# Altium schematic symbol library Connectors.SchLib: 325 symbols (part 1 of 4)
Pins are listed as number, name and electrical type; pins without a type are passive.

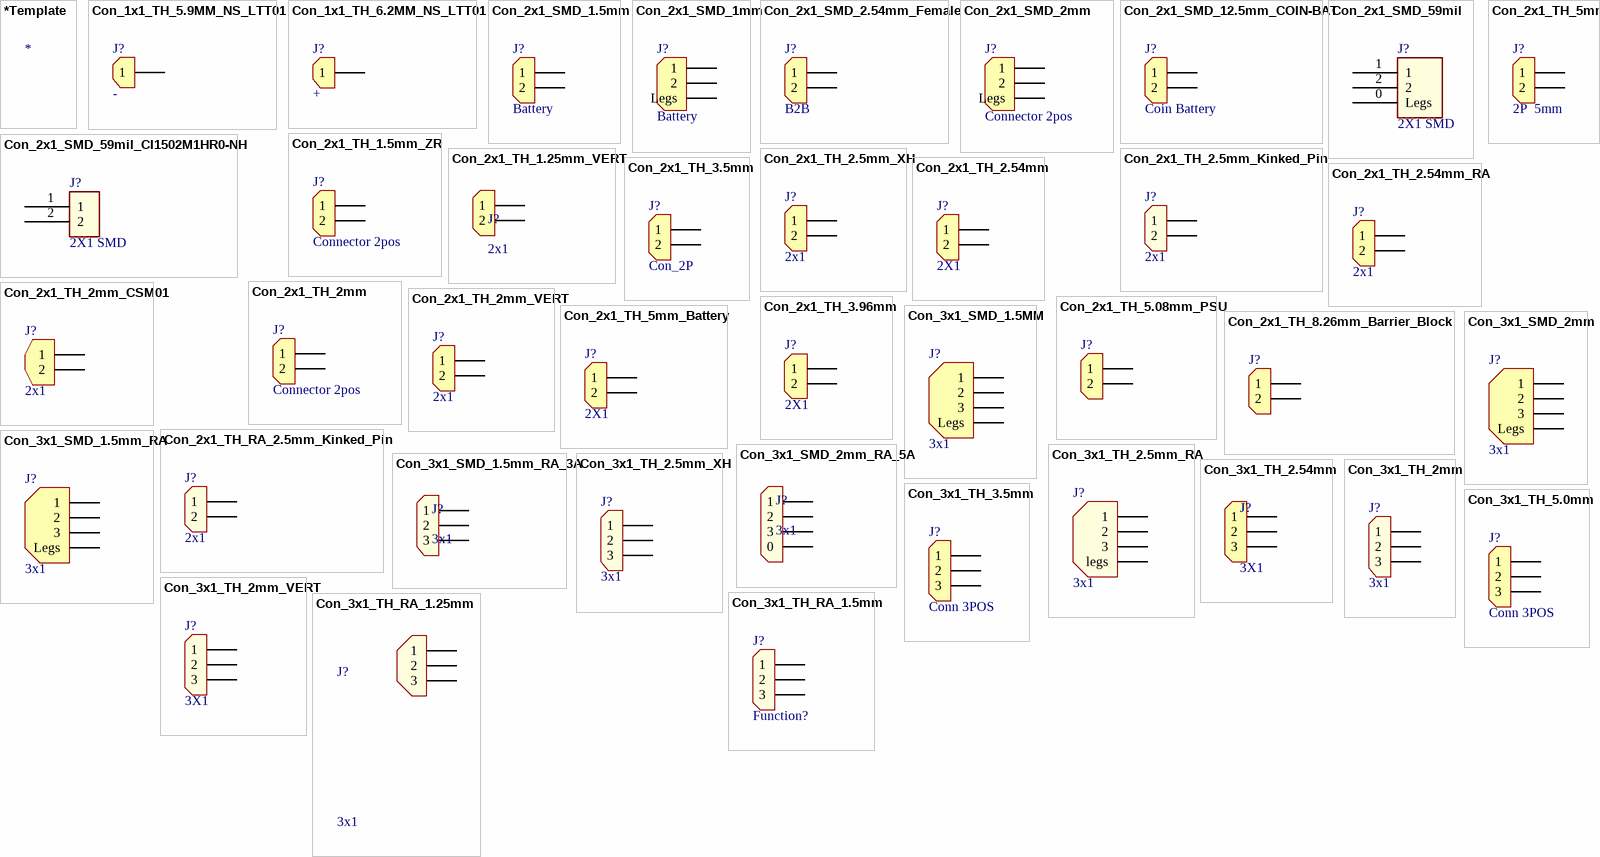
[diagram p0: symbols *Template to Con_3x1_TH_RA_1.25mm]

## *Template
designator *
Reel Stock: N/A

## Con_1x1_TH_5.9MM_NS_LTT01
designator J?, comment -
CONN NON STANDARD POSITIVE LTT01; Manufacturer: Wingroup; Manufacturer Part Number: LTT01-WGI-0001; Supplier 1: Wingroup; Supplier Part Number 1: LTT01-WGI-0001; Reel Stock: N/A; Last modified by: J.Jaramillo; Last modified date: 20240310
footprint CON_1X1_TH_5.9MM_NS_LTT01 (/20220503/V-A.Patino)
pins: 1

## Con_1x1_TH_6.2MM_NS_LTT01
designator J?, comment +
CONN NON STANDARD  NEGATIVE LTT01; Manufacturer: Wingroup; Manufacturer Part Number: LTT01-WGI-0002; Supplier 1: Wingroup; Supplier Part Number 1: LTT01-WGI-0002; Reel Stock: N/A; Last modified by: J.Jaramillo; Last modified date: 20240310
footprint CON_1X1_TH_6.2MM_NS_LTT01 (/20220503/V-A.Patino)
pins: 1

## Con_2x1_SMD_1.5mm
designator J?, comment Battery
CONN HEADER ZH SIDE 2POS 1.5MM; Manufacturer: JST Sales America Inc.; Manufacturer Part Number: S2B-ZR-SM4A-TF(LF)(SN); Last modified by: J.Jaramillo; Last modified date: 20240310; ComponentLink1Description: Digi-key; ComponentLink1URL: https://www.digikey.tw/products/en?keywords=455-1693-1-ND; Reel Stock: N/A; Supplier 1: Digi-Key; Supplier Part Number 1: 455-1693-1-ND
footprint CON_2x1_SMD_1.5MM_JST_ZH (/ 20190222 / C-A.Serna.A)
pins: 1, 2

## Con_2x1_SMD_1mm
designator J?, comment Battery
CONN HEADER SH 2POS SIDE 1MM TIN; Manufacturer: JST Sales America Inc.; Manufacturer Part Number: SM02B-SRSS-TB(LF)(SN); Supplier 1: Digi-Key; Supplier Part Number 1: 455-1802-2-ND; Last modified by: J.Jaramillo; Last modified date: 20240310; ComponentLink1Description: Digi-Key; ComponentLink1URL: https://www.digikey.tw/product-detail/en/jst-sales-america-inc/SM02B-SRSS-TB-LF-SN/455-1802-2-ND/926708; Reel Stock: N/A
footprint CON_2x1_SMD_1mm_JST_SMT-RA (/ 20200731/ N-A.Potosi)
pins: 0 Legs, 1, 2

## Con_2x1_SMD_2.54mm_Female
designator J?, comment B2B
2W, 2.54MM PTH SOCKET, SIL, SMT,; Manufacturer: GCT; Manufacturer Part Number: BG300-02-A-L-A; Supplier 1: Digi-key; Supplier Part Number 1: 2073-BG300-02-A-L-ACT-ND; Last modified by: J.Jaramillo; Last modified date: 20240310; Reel Stock: N/A; ComponentLink1Description: Digi-Key; ComponentLink1URL: https://www.digikey.com/product-detail/en/gct/BG300-02-A-L-A/2073-BG300-02-A-L-ATR-ND/9859593
footprint CON_2x1_SMD_2.54MM_GCT (/ 20190902 / N-A Potosi)
pins: 1, 2

## Con_2x1_SMD_2mm
designator J?, comment Connector 2pos
CONN HEADER PH SIDE 2POS 2MM SMD; Manufacturer: JST Sales America Inc.; Manufacturer Part Number: S2B-PH-SM4-TB(LF)(SN); Supplier 1: Digi-Key; Supplier Part Number 1: 455-1749-1-ND; Last modified by: J.Jaramillo; Last modified date: 20240310; ComponentLink1Description: Digi-Key; ComponentLink1URL: https://www.digikey.com/product-detail/en/jst-sales-america-inc/S2B-PH-SM4-TB-LF-SN/455-1749-1-ND/926846; Reel Stock: N/A
footprint CON_2x1_SMD_2mm_JST_SMT-RA (/ 20201005/ N-A.Potosi)
pins: 0 Legs, 1, 2

## Con_2x1_SMD_12.5mm_COIN-BAT
designator J?, comment Coin Battery
BATTERY HOLDER COIN 12.5MM SMD; Manufacturer: Keystone Electronics; Manufacturer Part Number: 1056; Supplier 1: Digi-key; Supplier Part Number 1: 36-1056-ND; Last modified by: J.Jaramillo; Last modified date: 20240310; ComponentLink1Description: Digi-key; ComponentLink1URL: https://www.digikey.com/product-detail/en/keystone-electronics/1056/36-1056-ND/2020198; Reel Stock: N/A
footprint CON_2x1_SMD_12.5MM_COIN-BAT (/ 20191210 / C-D Viveros)
pins: 1, 2

## Con_2x1_SMD_59mil
designator J?, comment 2X1 SMD
CONN HEADER SMD R/A 2POS 1.5MM; Manufacturer: JST Sales America Inc.; Manufacturer Part Number: S2B-ZR-SM4A-TF(LF)(SN); Supplier 1: Digi-Key; Supplier Part Number 1: 455-1693-1-ND; Reel Stock: N/A; Last modified by: J.Jaramillo; Last modified date: 20240310; ComponentLink1Description: Digi-Key; ComponentLink1URL: https://www.digikey.com/products/en?keywords=455-1693-1-ND
footprint CON_2X1_SMD_59mil_ S2B-ZR-SM4A (/20200406/V-A.patino)
pins: 0 Legs, 1, 2

## Con_2x1_SMD_59mil_CI1502M1HR0-NH
designator J?, comment 2X1 SMD
2 POS 1.50MM(.059) WIRE TO BOARD; Manufacturer: Cvilux USA; Manufacturer Part Number: CI1502M1HR0-NH; Supplier 1: Digi-Key; Supplier Part Number 1: 2987-CI1502M1HR0-NHCT-ND; Reel Stock: N/A; Last modified by: J.Jaramillo; Last modified date: 20240310; ComponentLink1Description: Digi-Key; ComponentLink1URL: https://www.digikey.com/en/products/detail/cvilux-usa/CI1502M1HR0-NH/13177486
footprint CON_2X1_SMD_59mil_CI1502M1HR0-NH (/20210329/V-A.Patino)
pins: 1, 2

## Con_2x1_TH_1.5mm_ZR
designator J?, comment Connector 2pos
CONN HEADER R/A 2POS 1.5MM; Manufacturer: JST Sales America Inc.; Manufacturer Part Number: S2B-ZR(LF)(SN); Supplier 1: Digi-key; Supplier Part Number 1: 455-1669-ND; Last modified by: J.Jaramillo; Last modified date: 20240310; Reel Stock: N/A; ComponentLink1Description: Digi-Key; ComponentLink1URL: https://www.digikey.com/products/en?keywords=455-1669-ND
footprint CON_2x1_TH_1.5MM_ZR (/ 20191210 / C-D Viveros)
pins: 1, 2

## Con_2x1_TH_1.25mm_VERT
designator J?, comment 2x1
CONN HEADER VERT 2POS 1.25MM; Manufacturer: Molex; Manufacturer Part Number: 0530470210; Supplier 1: Digi-Key; Supplier Part Number 1: WM1731-ND; Reel Stock: N/A; Last modified by: J.Jaramillo; Last modified date: 20240310; ComponentLink1Description: Digi-Key; ComponentLink1URL: https://www.digikey.com/en/products/detail/molex/0530470210/242853?s=N4IgTCBcDaIKwGYAMAWA7AWiWAjEkAugL5A
footprint Con_2x1_TH_1.25MM (/ 20221116/ J-A.Sepulveda)
pins: 1, 2

## Con_2x1_TH_2.5mm_Kinked_Pin
designator J?, comment 2x1
CONN HEADER VERT 2POS 2.5MM; Manufacturer: TE Connectivity AMP Connectors; Manufacturer Part Number: 2132415-2; Last modified date: 20240310; Last modified by: J.Jaramillo; Reel Stock: N/A; ComponentLink1Description: Digi-Key; ComponentLink1URL: https://www.digikey.com/product-detail/en/te-connectivity-amp-connectors/2132415-2/A101065-ND/2288165; Supplier 1: Digi-Key; Supplier Part Number 1: A101065-ND
footprint CON_2X1_TH_2.5MM (/ 20200512 / J-P.Vargas.A)
pins: 1, 2

## Con_2x1_TH_2.5mm_XH
designator J?, comment 2x1
CONN HEADER VERT 2POS 2.5MM; Manufacturer: JST Sales America Inc.; Manufacturer Part Number: B2B-XH-A(LF)(SN); Supplier 1: Digi-Key; Supplier Part Number 1: 455-2247-ND; Reel Stock: N/A; Last modified by: J.Jaramillo; Last modified date: 20240310; ComponentLink1Description: Digi-Key; ComponentLink1URL: https://www.digikey.com/en/products/detail/jst-sales-america-inc/B2B-XH-A-LF-SN/1651045
footprint Con_2x1_TH_2.5mm_XH (/20201013/C-A.Serna.A)
pins: 1, 2

## Con_2x1_TH_2.54mm
designator J?, comment 2X1
CONN HEADER VERT 2POS 2.54MM; Manufacturer: Molex; Manufacturer Part Number: 0705430036; Supplier 1: Digi-Key; Supplier Part Number 1: WM4824-ND; Reel Stock: N/A; Last modified by: J.Jaramillo; Last modified date: 20240310; ComponentLink1Description: Digi-Key; ComponentLink1URL: https://www.digikey.com/en/products/detail/molex/0705430036/313739
footprint CON_2X1_2.54MM_TH (/20220107/J-E.Pachon)
pins: 1, 2

## Con_2x1_TH_2.54mm_RA
designator J?, comment 2x1
CONN HEADER R/A 2POS 2.54MM; Manufacturer: Molex; Manufacturer Part Number: 0705530036; Supplier 1: Digi-Key; Supplier Part Number 1: WM4924-ND; Reel Stock: N/A; Last modified by: J.Jaramillo; Last modified date: 20240310; ComponentLink1Description: Digi-Key; ComponentLink1URL: https://www.digikey.com/en/products/detail/molex/0705530036/313763
footprint CON_2X1_TH_2.54MM_RA (20220222 / E.Naranjo)
pins: 1, 2

## Con_2x1_TH_2mm
designator J?, comment Connector 2pos
CONN HEADER R/A 2POS 2MM; Manufacturer: JST Sales America Inc.; Manufacturer Part Number: S2B-PH-K-S(LF)(SN); Supplier 1: Digi-key; Supplier Part Number 1: 455-1719-ND; Last modified by: J.Jaramillo; Last modified date: 20240310; Reel Stock: N/A; ComponentLink1Description: Digi-Key; ComponentLink1URL: https://www.digikey.com/product-detail/en/jst-sales-america-inc/S2B-PH-K-S-LF-SN/455-1719-ND/926626
footprint CON_2x1_TH_2MM (/20190307/N-A.Potosi)
pins: 1, 2

## Con_2x1_TH_2mm_CSM01
designator J?, comment 2x1
CONN HEADER R/A 2POS 2MM; Manufacturer Part Number: 440055-2; Manufacturer: TE Connectivity AMP Connectors; Supplier Part Number 1: A100043-ND; Supplier 1: Digi-Key; ComponentLink1URL: https://www.digikey.com/en/products/detail/te-connectivity-amp-connectors/440055-2/2077946; Last modified date: 20240310; Last modified by: J.Jaramillo; Reel Stock: N/A; ComponentLink1Description: Digi-key; ComponentLink1URL: https://www.digikey.com/products/en?keywords=A101401CT-ND
footprint CON_2X1_TH_2MM_CSM01 (/20200121/V-A.Patino)
pins: 1, 2

## Con_2x1_TH_2mm_VERT
designator J?, comment 2x1
CONN HEADER VERT 2POS 2MM; Manufacturer: JST Sales America Inc.; Manufacturer Part Number: B2B-PH-K-S(LF)(SN); Supplier 1: Digi-Key; Supplier Part Number 1: 455-1704-ND; Reel Stock: N/A; Last modified by: J.Jaramillo; Last modified date: 20240310; ComponentLink1Description: Digi-Key; ComponentLink1URL: https://www.digikey.com/en/products/detail/jst-sales-america-inc/B2B-PH-K-S-LF-SN/926611
footprint CON_2x1_TH_2MM_VERT (/20201019/J-E.Pachon)
pins: 1, 2

## Con_2x1_TH_3.5mm
designator J?, comment Con_2P
TERM BLK 2POS SIDE ENT 3.5MM PCB; Manufacturer: Würth Elektronik; Manufacturer Part Number: 691214110002; Supplier 1: Digi-Key; Supplier Part Number 1: 732-2747-ND; Last modified by: J.Jaramillo; Last modified date: 20240310; ComponentLink1Description: Digi-key; ComponentLink1URL: https://www.digikey.com/product-detail/en/wurth-electronics-inc/691214110002/732-2747-ND/2508516; Reel Stock: N/A
footprint CON_2x1_TH_3.5mm_TB (/ 20190222 / C-A.Serna.A)
pins: 1, 2

## Con_2x1_TH_3.96mm
designator J?, comment 2X1
CONN HEADER VERT 2POS 3.96MM; Manufacturer: JST Sales America Inc.; Manufacturer Part Number: B2P-VH(LF)(SN); Supplier 1: Digi-key; Supplier Part Number 1: 455-1639-ND; Reel Stock: N/A; Last modified by: J.Jaramillo; Last modified date: 20240310; ComponentLink1Description: Digi-key; ComponentLink1URL: https://www.digikey.com/en/products/detail/jst-sales-america-inc/B2P-VH-LF-SN/926547?s=N4IgTCBcDaIEJgAoFoBqAJAFAGQGIEpMBlAOXxAF0BfIA
footprint CON_2X1_TH_3.96MM (/20220519/F-A.Ospina)
pins: 1, 2

## Con_2x1_TH_5.08mm_PSU
designator J?, comment CON-2P  (value not drawn)
TERM BLK 2P SIDE ENT 5.08MM PCB; Manufacturer: Phoenix Contact; Manufacturer Part Number: 1017503; Reel Stock: N/A; Last modified by: J.Jaramillo; Last modified date: 20240310; Supplier 1: Digi-Key; Supplier Part Number 1: 277-17514-ND; ComponentLink1Description: Digi-key; ComponentLink1URL: https://www.digikey.com/products/en?keywords=277-17514-ND
footprint Con_2x1_TH_5.08mm_PSU (20190423 / V-A.Patino)
pins: 1, 2

## Con_2x1_TH_5mm
designator J?, comment 2P  5mm
TERM BLK 2POS SIDE ENTRY 5MM PCB; Manufacturer: Phoenix Contact; Manufacturer Part Number: 1935161; Supplier Part Number 1: 277-1667-ND; Last modified by: J.Jaramillo; Last modified date: 20240310; ComponentLink1Description: Digi-key; ComponentLink1URL: https://www.digikey.com/en/products/detail/phoenix-contact/1935161/568614; Reel Stock: N/A; Supplier 1: Digi-Key
footprint CON_2x1_TH_5mm (/ 20201015 / C-A.Serna.A)
pins: 1, 2

## Con_2x1_TH_5mm_Battery
designator J?, comment 2X1
Power Connectors ROHS; Manufacturer: Changzhou Amass Elec; Manufacturer Part Number: XT30U-M; Supplier 1: LCSC; Supplier Part Number 1: C99101; Reel Stock: N/A; Last modified by: J.Jaramillo; Last modified date: 20240310; ComponentLink1Description: Digi-Key; ComponentLink1URL: https://lcsc.com/product-detail/Power-Connectors_Changzhou-Amass-Elec-XT30U-M_C99101.html
footprint CON_2X1_TH_5MM_BAT (/20220107/J-E.Pachon)
pins: 1, 2

## Con_2x1_TH_8.26mm_Barrier_Block
designator J?, comment CON-2P  (value not drawn)
CONN BARRIER STRIP 2CIRC 0.325"; Manufacturer: Molex; Manufacturer Part Number: 0387007502; Reel Stock: N/A; Last modified by: J.Jaramillo; Last modified date: 20240310; Supplier 1: Digi-Key; Supplier Part Number 1: WM13920-ND; ComponentLink1Description: Digi-key; ComponentLink1URL: https://www.digikey.com/product-detail/en/molex/0387007502/WM13920-ND/3467311
footprint CON_2X1_TH_8.26mm_Barrier_Block (/20200618 / C.E-Rincon)
pins: 1, 2

## Con_2x1_TH_RA_2.5mm_Kinked_Pin
designator J?, comment 2x1
CONN HEADER R/A 2POS 2.5MM; Manufacturer: TE Connectivity AMP Connectors; Manufacturer Part Number: 1744426-2; Last modified date: 20240310; Last modified by: J.Jaramillo; Reel Stock: N/A; ComponentLink1Description: Digi-Key; ComponentLink1URL: https://www.digikey.com/product-detail/en/te-connectivity-amp-connectors/1744426-2/A116498-ND/4730284; Supplier 1: Digi-Key; Supplier Part Number 1: A116498-ND
footprint CON_2X1_TH_RA_2.5MM (/ 20200528 / J-P.Vargas.A)
pins: 1, 2

## Con_3x1_SMD_1.5MM
designator J?, comment 3x1
CONN RCPT 3POS 0.059 TIN SMD; Manufacturer: Molex; Manufacturer Part Number: 5025840370; Last modified by: J.Jaramillo; Last modified date: 20240310; Supplier 1: Digi-Key; Supplier Part Number 1: WM14461CT-ND; Reel Stock: N/A; ComponentLink1Description: Digikey; ComponentLink1URL: https://www.digikey.com/product-detail/en/molex/5025840370/WM14461CT-ND/6133192
footprint CON_3x1_SMD_1.5MM (/202010001/J-E.Pachon)
pins: 0 Legs, 1, 2, 3

## Con_3x1_SMD_1.5mm_RA
designator J?, comment 3x1
CONN HEADER SMD R/A 3POS 1.5MM; Manufacturer: JST Sales America Inc.; Manufacturer Part Number: S3B-ZR-SM4A-TF(LF)(SN); Supplier 1: Digikey; Supplier Part Number 1: 455-1694-1-ND; Reel Stock: N/A; Last modified by: J.Jaramillo; Last modified date: 20240310; ComponentLink1Description: Digikey; ComponentLink1URL: https://www.digikey.com/en/products/detail/jst-sales-america-inc/S3B-ZR-SM4A-TF-LF-SN/926601
footprint CON_3x1_SMD_1.5MM_RA (20221111 /V-A.Patino)
pins: 0 Legs, 1, 2, 3

## Con_3x1_SMD_1.5mm_RA_3A
designator J?, comment 3x1
CONN HEADER SMD R/A 3POS 1.5MM; Manufacturer: TE Connectivity AMP Connectors; Manufacturer Part Number: 5-1775444-3; Supplier 1: Digi-Key; Supplier Part Number 1: A99997CT-ND; Reel Stock: N/A; Last modified by: J.Jaramillo; Last modified date: 20240310; ComponentLink1Description: Digi-Key; ComponentLink1URL: https://www.digikey.com/en/products/detail/te-connectivity-amp-connectors/5-1775444-3/2077904?s=N4IgTCBcDaIKwFoCMB2FcAsWEGYQF0BfIA
footprint CON_3x1_SMD_1.5MM_RA_3A (/20230802/J-A.Sepulveda)
pins: 1, 2, 3

## Con_3x1_SMD_2mm
designator J?, comment 3x1
CONN HEADER SMD R/A 3POS 2MM; Manufacturer: JST Sales America Inc.; Manufacturer Part Number: S3B-PH-SM4-TB(LF)(SN); Supplier 1: Digikey; Supplier Part Number 1: 455-1750-1-ND; Reel Stock: N/A; Last modified by: J.Jaramillo; Last modified date: 20240310; ComponentLink1Description: Digikey; ComponentLink1URL: https://www.digikey.com/en/products/detail/jst-sales-america-inc/S3B-PH-SM4-TB-LF-SN/926656?s=N4IgTCBcDaICwFYEFoCMB2BAGNyByAIiALoC%2BQA
footprint CON_3x1_SMD_2MM
pins: 0 Legs, 1, 2, 3

## Con_3x1_SMD_2mm_RA_5A
designator J?, comment 3x1
1x3P PH 1 2mm Male pin 3 -25℃~+70℃ 5A Surface Mount SMD,P=2mm Wire To Board / Wire To Wire Connector ROHS; Manufacturer: HDGC; Manufacturer Part Number: HDGC2001WR-S-3P; Supplier 1: LCSC; Supplier Part Number 1: C2936225; Reel Stock: N/A; Last modified by: J.Jaramillo; Last modified date: 20240310; ComponentLink1Description: LCSC; ComponentLink1URL: https://www.lcsc.com/product-detail/Wire-To-Board-Wire-To-Wire-span-style-background-color-ff0-Connector-span_HDGC-HDGC2001WR-S-3P_C2936225.html
footprint CON_3x1_SMD_2MM_RA_5A (/20230822/J-A.Sepulveda)
pins: 0, 1, 2, 3

## Con_3x1_TH_2.5mm_RA
designator J?, comment 3x1
TERM BLOCK HDR 3POS 90DEG 2.5MM; Manufacturer: Phoenix Contact; Manufacturer Part Number: 1778777; Supplier 1: Digi-Key; Supplier Part Number 1: 277-2316-6-ND; Reel Stock: N/A; Last modified by: J.Jaramillo; Last modified date: 20240310; ComponentLink1Description: Digi-Key; ComponentLink1URL: https://www.digikey.com/en/products/detail/phoenix-contact/1778777/2625550
footprint CON_3X1_TH_2.5MM_RA (20220915 / E.Naranjo)
pins: 0 legs, 1, 2, 3

## Con_3x1_TH_2.5mm_XH
designator J?, comment 3x1
CONN HEADER VERT 3POS 2.5MM; Manufacturer Part Number: B3B-XH-A(LF)(SN); Manufacturer: JST Sales America Inc.; Supplier 1: Digi-Key; Supplier Part Number 1: 455-2248-ND; Last modified date: 20240310; Last modified by: J.Jaramillo; Reel Stock: N/A; ComponentLink2Description: Digi-Key; ComponentLink2URL: https://www.digikey.com/en/products/detail/jst-sales-america-inc/B3B-XH-A-LF-SN/1651046
footprint CON_3X1_TH_2.5MM_XH (/20201013/C-A.Serna.A)
pins: 1, 2, 3

## Con_3x1_TH_2.54mm
designator J?, comment 3X1
CONN HEADER VERT 3POS 2.54MM; Manufacturer: Molex; Manufacturer Part Number: 0705430037; Supplier 1: Digi-Key; Supplier Part Number 1: WM4825-ND; Reel Stock: N/A; Last modified by: J.Jaramillo; Last modified date: 20240310; ComponentLink1Description: Digi-Key; ComponentLink1URL: https://www.digikey.com/en/products/detail/molex/0705430037/313740?s=N4IgjCBcoKxaBjKAzAhgGwM4FMA0IB7KAbXBAF18AHAFyhAGUaAnASwDsBzEAX3wCYAHPBBJIaLHkIkQAZhjyADAHYK1OpEYsO3PiABsskWIk58RSKTAxl-AJwRKIWvSZsuvfPv3GUGM9KWZE4umm46ngZ2vuL%2BUhakACxgYIJ2qiEaWu66%2BILC0KJ%2BkuYyYPp29nCZrtoeenaKMabxMrJ23tXqtTmRDs1xpUGy-OX8RjVhdbkg-DD8AyWBpKP8ibKJas5Z4fX4iYpwhSaDy3LldnYT3VO9ejBgC8fFAQlyymDy19s9Efepi1ebUMnS2oWyf3wMH0m2esSWb1kj2UiS6P1ukJAMDSgNaQQOMEUigWkwheyiqjhLSGVjBO2mfUURippzeyWU%2Bn4GRuZJmYEUglhiBeeNIskE%2BhgiWipN2fP4hlxNOCPLlkQuzOF8KBwzAl3sdN%2B5LAykaSrO6QVhoxxtNEBZCJkyX44256N56tNTy11ItdmhjlVDL0Jv95rZj1d1o9IdNPgdOtIlwD0bVIbsOITopATXIen4ihS4adim83lTwYEhe9RW12ZS5U2ssrs0LBR9rJka0Ogfdaaro2L%2BOJJrd4P7rZdQ5WiRdTaDdwHmtrvsR%2BRg8wri8nQpXnaCvfHLYLc2n4Ghpa3mIAtPaO46guMKHpr7uTg-SFKPtUX0d74mDGffBr0pf963FT4YFwJ88x4HggA
footprint CON_3X1_2.54MM_TH (/20230123/J-E.Pachon)
pins: 1, 2, 3

## Con_3x1_TH_2mm
designator J?, comment 3x1
CONN HEADER VERT 3POS 2MM; Manufacturer: JST Sales America Inc.; Mnufacturer Part Number: B3B-PH-K-S(LF)(SN); Last modified by: J.Jaramillo; Last modified date: 20240310; Supplier 1: Digi-Key; Supplier Part Number 1: 455-1705-ND; Reel Stock: N/A; ComponentLink1Description: Digikey; ComponentLink1URL: https://www.digikey.com/products/en?keywords=455-1705-ND
footprint CON_3x1_TH_2MM (/20201001/J-E.Pachon)
pins: 1, 2, 3

## Con_3x1_TH_2mm_VERT
designator J?, comment 3X1
CONN HEADER VERT 3POS 2MM; Manufacturer: Molex; Manufacturer Part Number: 0353620350; Supplier 1: Digi-Key; Supplier Part Number 1: WM18921-ND; Reel Stock: N/A; Last modified by: J.Jaramillo; Last modified date: 20240310; ComponentLink1Description: Digi-Key; ComponentLink1URL: https://www.digikey.com/en/products/detail/molex/0353620350/761940?s=N4IgTCBcDaIKwGYBsYAMC6pAXQL5A
footprint CON_3x1_TH_2MM_VERT (/20220520/J-E.Pachon)
pins: 1, 2, 3

## Con_3x1_TH_3.5mm
designator J?, comment Conn 3POS
TERM BLOCK 3POS 45DEG 3.5MM PCB; Manufacturer: Phoenix Contact; Manufacturer Part Number: 1764833; Supplier 1: Digi-Key; Supplier Part Number 1: 277-8688-ND; Reel Stock: N/A; Last modified by: J.Jaramillo; Last modified date: 20240310; ComponentLink1Description: Digi-Key; ComponentLink1URL: https://www.digikey.com/en/products/detail/phoenix-contact/1764833/3605989?s=N4IgTCBcDa4OxwLQA4BszmIHIBEQF0BfIA
footprint CON_3X1_TH_3.5MM (/ 20190222 / C-A.Serna.A)
pins: 1, 2, 3

## Con_3x1_TH_5.0mm
designator J?, comment Conn 3POS
TERM BLK 3POS SIDE ENTRY 5MM PCB; Manufacturer: Phoenix Contact; Manufacturer Part Number: 1935174; Supplier 1: Digi-Key; Supplier Part Number 1: 277-1578-ND; Reel Stock: N/A; Last modified by: J.Jaramillo; Last modified date: 20240310; ComponentLink1Description: Digi-Key; ComponentLink1URL: https://www.digikey.com/product-detail/en/phoenix-contact/1935174/277-1578-ND/568615
footprint CON_3x1_TH_5mm (/ 20190222 / C-A.Serna.A)
pins: 1, 2, 3

## Con_3x1_TH_RA_1.5mm
designator J?, comment Function?
CONN HEADER R/A 3POS 1.5MM; Manufacturer Part Number: S3B-ZR(LF)(SN); Manufacturer: JST Sales America Inc.; ComponentLink1Description: Digi-Key; ComponentLink1URL: https://www.digikey.com/products/en?keywords=455-1670-ND; Last modified date: 20240310; Last modified by: J.Jaramillo; Reel Stock: N/A; Supplier 1: Digi-Key; Supplier Part Number 1: 455-1670-ND
footprint CON_3x1_TH_RA_1.5MM (/20200527/H-D.Garcia)
pins: 1, 2, 3

## Con_3x1_TH_RA_1.25mm
designator J?, comment 3x1
CONN HEADER TH R/A 3POS 1.25mm; Manufacturer: MOLEX; Manufacturer Part Number: 530480310; Supplier 1: LCSC; Supplier Part Number 1: C505275; Reel Stock: N/A; Last modified by: J.Jaramillo; Last modified date: 060726; ComponentLink1Description: LCSC; ComponentLink1URL: https://www.lcsc.com/product-detail/C505275.html?s_z=n_q_53048-0310&spm=wm.fly.bg.0.xh&lcsc_vid=QlVWAwYAFgVeVVReQwReXlYDEQcLUgVSRQQLU1NREwMxVlNeRFJXUFxeQVJaXjsOAxUeFF5JWBYZEEoKFBINSQcJGk4NBhADEA4cHktRTlNADxALGw%3D%3D; ComponentLink2Description: Datasheet; ComponentLink2URL: https://www.lcsc.com/datasheet/C505275.pdf?spm=wm.sxq.inf.ggs___wm.fly.bg.0.xh&lcsc_vid=QlVWAwYAFgVeVVReQwReXlYDEQcLUgVSRQQLU1NREwMxVlNeRFJXUFxeQVJaXjsOAxUeFF5JWBYZEEoKFBINSQcJGk4NBhADEA4cHktRTlNADxALGw%3D%3D
footprint CON_3X1_TH_RA_1.25MM (/ 060726 / J.Jaramillo)
pins: 1, 2, 3

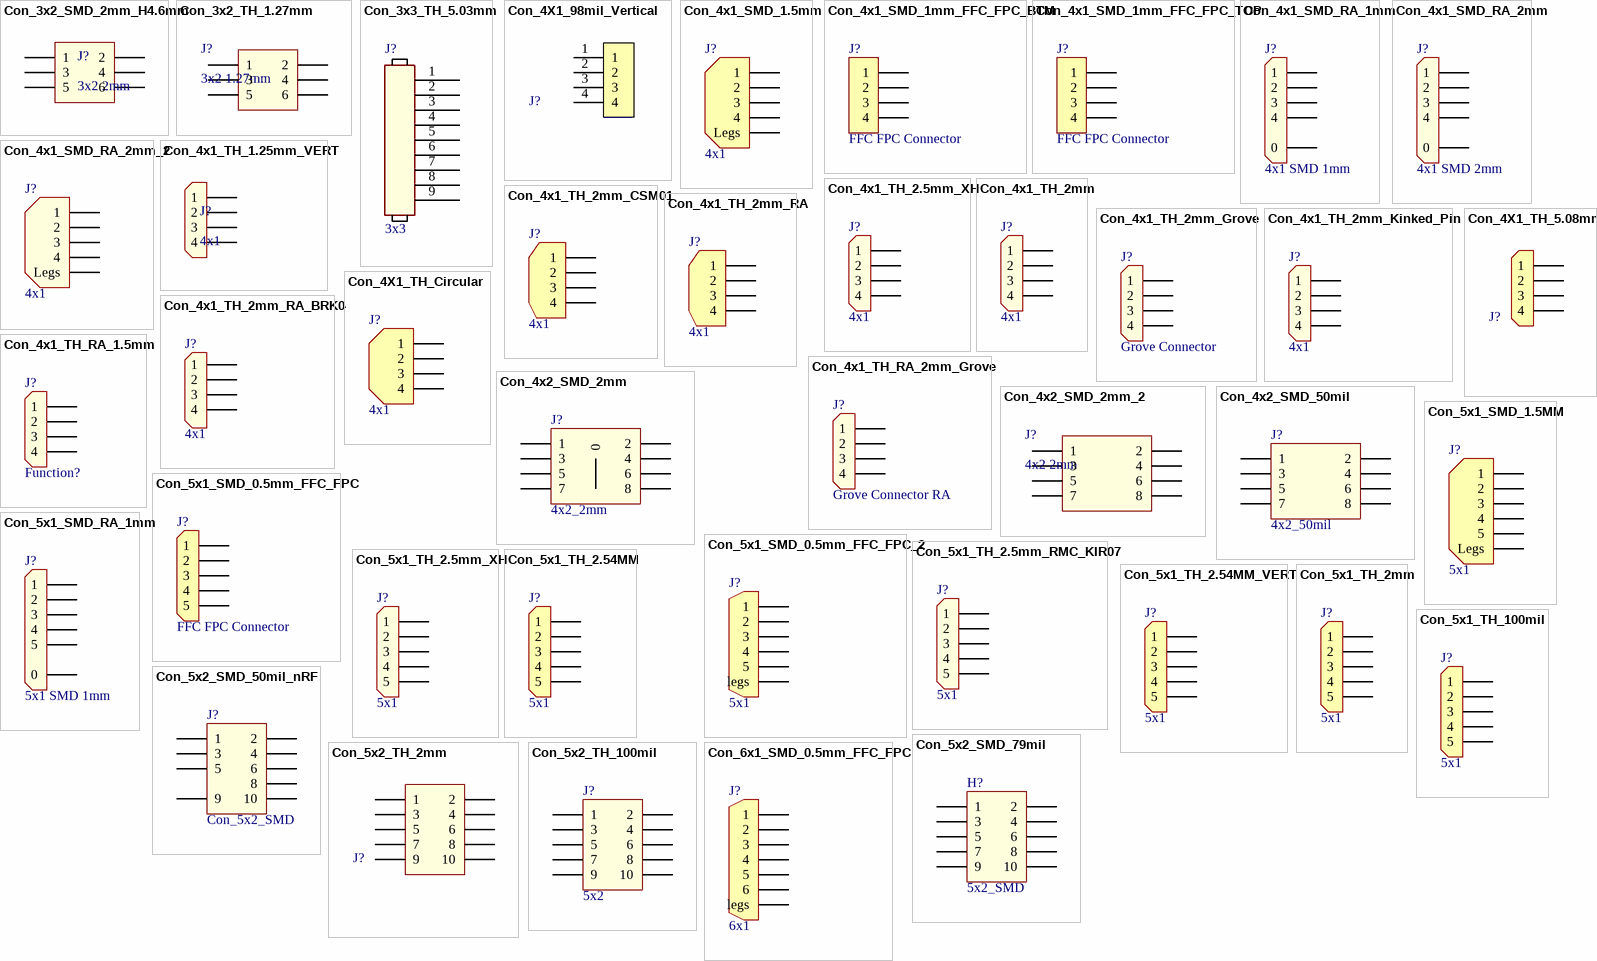
[diagram p1: symbols Con_3x2_SMD_2mm_H4.6mm to Con_6x1_SMD_0.5mm_FFC_FPC]

## Con_3x2_SMD_2mm_H4.6mm
designator J?, comment 3x2 2mm
CONN RCPT 6POS 2MM SMD; Manufacturer: RealRun Electronic; Manufacturer Part Number: FH2.0*4.3-2*3T K4.5 W6.15 6T 金1U (WITH POST); Supplier 1: Poshton; Supplier Part Number 1: FH2.0*4.3-2*3T K4.5 W6.15 6T; Reel Stock: N/A; Last modified by: J.Jaramillo; Last modified date: 20240310; ComponentLink1Description: Datasheet; ComponentLink1URL: https://drive.google.com/file/d/1Wa1QDtp6maiG9NEi5ubU7c47UXZQ8b25/view?usp=drive_link
footprint Con_3x2_SMD_2mm_H4.6mm (/20230621/J-A.Sepulveda)
pins: 1, 2, 3, 4, 5, 6

## Con_3x2_TH_1.27mm
designator J?, comment 3x2 1.27mm
CONN HEADER VERT 6POS 1.27MM; Manufacturer: Amphenol ICC (FCI); Manufacturer Part Number: 20021511-00006T4LF; Supplier 1: Digi-Key; Supplier Part Number 1: 20021511-00006T4LF-ND; Reel Stock: N/A; Last modified by: J.Jaramillo; Last modified date: 20240310; ComponentLink1Description: Digi-Key; ComponentLink1URL: https://www.digikey.com/en/products/detail/amphenol-cs-fci/20021511-00006T4LF/4244981
footprint CON_3X2_TH_1.27MM (20230217 / E.Naranjo)
pins: 1, 2, 3, 4, 5, 6

## Con_3x3_TH_5.03mm
designator J?, comment 3x3
CONN HEADER VERT 9POS 5.03MM; Manufacturer: Molex; Manufacturer Part Number: 0010181090; Supplier 1: Digi-Key; Supplier Part Number 1: 23-0010181090-ND; Reel Stock: N/A; Last modified by: J.Jaramillo; Last modified date: 20240310; ComponentLink1Description: Digi-key; ComponentLink1URL: https://www.digikey.com/products/en?keywords=10181090
footprint CON_3x3_TH_5.03MM (/20191030/V-A.Patino)
pins: 1, 2, 3, 4, 5, 6, 7, 8, 9

## Con_4X1_98mil_Vertical
designator J?
CONN HEADER VERT 4POS 2.5MM; Manufacturer: JST Sales America Inc.; Manufacturer Part Number: B4B-XH-A; Supplier 1: Digi-Key; Supplier Part Number 1: 455-B4B-XH-A-ND; Reel Stock: N/A; Last modified by: J.Jaramillo; Last modified date: 20240529; ComponentLink1Description: Digi-Key; ComponentLink1URL: https://www.digikey.com/en/products/detail/jst-sales-america-inc/B4B-XH-A/1651047
footprint CON_JTS_4POS_2.50MM (20240529/ J.Jaramillo)
pins: 1, 2, 3, 4

## Con_4x1_SMD_1.5mm
designator J?, comment 4x1
CONN RCPT 4POS 0.059 TIN SMD; Manufacturer: Molex; Manufacturer Part Number: 5025840460; Last modified by: J.Jaramillo; Last modified date: 20240310; Supplier 1: Digi-Key; Supplier Part Number 1: WM12830CT-ND; Reel Stock: N/A; ComponentLink1Description: Digikey; ComponentLink1URL: https://www.digikey.com/en/products/detail/molex/5025840460/2819018
footprint CON_4x1_SMD_1.5MM (/20220520/J-E.Pachon)
pins: 0 Legs, 1, 2, 3, 4

## Con_4x1_SMD_1mm_FFC_FPC_BTM
designator J?, comment FFC FPC Connector
FLEX CONNECTOR, 1.00MM PITCH, HE; Manufacturer: Amphenol ICC (FCI); Manufacturer Part Number: F52R-1A7H1-11004; Supplier 1: Digi-Key; Supplier Part Number 1: 609-F52R-1A7H1-11004CT-ND; Reel Stock: N/A; Last modified by: J.Jaramillo; Last modified date: 20240310; ComponentLink1Description: Digi-Key; ComponentLink1URL: https://www.digikey.com/en/products/detail/amphenol-icc-fci/F52R-1A7H1-11004/11564665
footprint CON_4x1_SMD_1MM_AMPHENOL_FFC_FPC (/ 20210929 / C-D Viveros)
pins: 1, 2, 3, 4

## Con_4x1_SMD_1mm_FFC_FPC_TOP
designator J?, comment FFC FPC Connector
FLEX CONNECTOR, 1.00MM PITCH, HE; Manufacturer: Amphenol ICC (FCI); Manufacturer Part Number: F52Q-1A7H1-11004; Supplier 1: Digi-Key; Supplier Part Number 1: 609-F52Q-1A7H1-11004CT-ND; Reel Stock: N/A; Last modified by: J.Jaramillo; Last modified date: 20240310; ComponentLink1Description: Digi-Key; ComponentLink1URL: https://www.digikey.com/en/products/detail/amphenol-icc-fci/F52Q-1A7H1-11004/11564720
footprint CON_4x1_SMD_1MM_AMPHENOL_FFC_FPC (/ 20210929 / C-D Viveros)
pins: 1, 2, 3, 4

## Con_4x1_SMD_RA_1mm
designator J?, comment 4x1 SMD 1mm
CONN HEADER SMD R/A 4POS 1MM; Manufacturer Part Number: 5015680407; Manufacturer: Molex; ComponentLink1Description: Digi-Key; ComponentLink1URL: https://www.digikey.com/products/en?keywords=WM7895CT-ND; Last modified date: 20240310; Last modified by: J.Jaramillo; Reel Stock: N/A; Supplier 1: Digi-Key; Supplier Part Number 1: WM7895CT-ND
footprint CON_4x1_SMD_RA_1MM (/20200525/H-D.Garcia)
pins: 0, 1, 2, 3, 4

## Con_4x1_SMD_RA_2mm
designator J?, comment 4x1 SMD 2mm
CONN HEADER SMD R/A 4POS 2MM; Manufacturer Part Number: DF3EA-4P-2H(21); Manufacturer: Hirose Electric Co Ltd; Supplier 1: Digi-Key; Supplier Part Number 1: H125448CT-ND; ComponentLink1Description: Digi-Key; ComponentLink1URL: https://www.digikey.com/product-detail/en/hirose-electric-co-ltd/DF3EA-4P-2H-21/H125448CT-ND/6148623; Last modified date: 20240310; Last modified by: J.Jaramillo; Reel Stock: N/A
footprint CON_4x1_SMD_2mm (/V.A.Patino/20200401)
pins: 0, 1, 2, 3, 4

## Con_4x1_SMD_RA_2mm_2
designator J?, comment 4x1
CONN HEADER SMD R/A 4POS 2MM; Manufacturer: TE Connectivity AMP Connectors; Manufacturer Part Number: 1775469-4; Supplier 1: Digi-Key; Supplier Part Number 1: A100082CT-ND; Reel Stock: N/A; Last modified by: J.Jaramillo; Last modified date: 20240310; ComponentLink1Description: Digi-Key; ComponentLink1URL: https://www.digikey.com/en/products/detail/te-connectivity-amp-connectors/1775469-4/2077984
footprint CON_4X1_SMD_RA_2MM (20221013 / E.Naranjo)
pins: 0 Legs, 1, 2, 3, 4

## Con_4x1_TH_1.25mm_VERT
designator J?, comment 4x1
CONN HEADER VERT 4POS 1.25MM; Manufacturer: Molex; Manufacturer Part Number: 0530470410; Supplier 1: Digi-Key; Supplier Part Number 1: WM1733-ND; Reel Stock: N/A; Last modified by: J.Jaramillo; Last modified date: 20240310; ComponentLink1Description: Digi-Key; ComponentLink1URL: https://www.digikey.com/en/products/detail/molex/0530470410/242855?s=N4IgTCBcDaIKwGYAMAWA7AWlQRiSAugL5A
footprint CON_4x1_TH_1.25MM (/ 20221116 / J-A.Sepulveda)
pins: 1, 2, 3, 4

## Con_4x1_TH_2.5mm_XH
designator J?, comment 4x1
CONN HEADER VERT 4POS 2.5MM; Manufacturer Part Number: B4B-XH-A(LF)(SN); Manufacturer: JST Sales America Inc.; Supplier 1: Digi-Key; Supplier Part Number 1: 455-2249-ND; Last modified date: 20240310; Last modified by: J.Jaramillo; Reel Stock: N/A; ComponentLink2Description: Digi-Key; ComponentLink2URL: https://www.digikey.com/en/products/detail/jst-sales-america-inc/B4B-XH-A-LF-SN/1651047
footprint CON_4X1_TH_2.5MM_XH (/20201013/C-A.Serna.A)
pins: 1, 2, 3, 4

## Con_4x1_TH_2mm
designator J?, comment 4x1
CONN HEADER VERT 4POS 2MM; Manufacturer: JST Sales America Inc.; Manufacturer Part Number: B4B-PH-K-S(LF)(SN); Last modified by: J.Jaramillo; Last modified date: 20240310; Supplier 1: Digi-Key; Supplier Part Number 1: 455-1706-ND; Reel Stock: N/A; ComponentLink1Description: Digikey; ComponentLink1URL: https://www.digikey.com/en/products/detail/jst-sales-america-inc/B4B-PH-K-S-LF-SN/926613
footprint CON_4x1_TH_2MM (/20201001/J-E.Pachon)
pins: 1, 2, 3, 4

## Con_4x1_TH_2mm_CSM01
designator J?, comment 4x1
CONN HEADER R/A 4POS 2MM; Manufacturer Part Number: 440055-4; Manufacturer: TE Connectivity AMP Connectors; Supplier Part Number 1: A100045-ND; Supplier 1: Digi-Key; ComponentLink1URL: https://www.digikey.com/en/products/detail/te-connectivity-amp-connectors/440055-4/2077948; Last modified date: 20240310; Last modified by: J.Jaramillo; Reel Stock: N/A; ComponentLink1Description: Digi-key; ComponentLink1URL: https://www.digikey.com/products/en?keywords=A101401CT-ND
footprint CON_4X1_TH_2MM_CSM01 (/20210121/V-A.Patino)
pins: 1, 2, 3, 4

## Con_4x1_TH_2mm_Grove
designator J?, comment Grove Connector
GROVE 2MM 4PIN CONN 10PACK; Manufacturer Part Number: 110990030; Manufacturer: Seeed Technology Co., Ltd; Supplier 1: Digi-Key; Supplier Part Number 1: 1597-1082-ND; ComponentLink1Description: Digi-Key; ComponentLink1URL: https://www.digikey.com/product-detail/en/seeed-technology-co-ltd/110990030/1597-1082-ND/5482560; Last modified date: 20240310; Last modified by: J.Jaramillo; Reel Stock: N/A
footprint CON_4X1_TH_2mm_GROVE (/ 20190222 / C-A.Serna.A)
pins: 1, 2, 3, 4

## Con_4x1_TH_2mm_Kinked_Pin
designator J?, comment 4x1
CONN HEADER PA 4POS TOP W/BOSS; Manufacturer: JST Sales America Inc.; Manufacturer Part Number: B04B-PASK-1(LF)(SN); Last modified date: 20240310; Last modified by: J.Jaramillo; Reel Stock: N/A; ComponentLink1Description: Digi-Key; ComponentLink1URL: https://www.digikey.com/products/en?keywords=455-1834-ND; Supplier 1: Digi-Key; Supplier Part Number 1: 455-1834-ND
footprint CON_4X1_TH_2MM_JST (/ 20190222 / C-A.Serna.A)
pins: 1, 2, 3, 4

## Con_4x1_TH_2mm_RA
designator J?, comment 4x1
CONN HEADER R/A 4POS 2MM; Manufacturer: JST Sales America Inc.; Manufacturer Part Number: S4B-PH-K-S(LF)(SN); Supplier 1: Digi-Key; Supplier Part Number 1: 455-1721-ND; Reel Stock: N/A; Last modified by: J.Jaramillo; Last modified date: 20240310; ComponentLink1Description: Digi-Key; ComponentLink1URL: https://www.digikey.com/en/products/detail/jst-sales-america-inc/S4B-PH-K-S-LF-SN/926628?s=N4IgTCBcDaIMoBYBCBaACgCRQaRXAFADIBiAlPnAHKkgC6AvkA
footprint CON_4X1_TH_2MM_CSM01 (/20210121/V-A.Patino)
pins: 1, 2, 3, 4

## Con_4x1_TH_2mm_RA_BRK04
designator J?, comment 4x1
CONN HEADER R/A 4POS 2MM; Manufacturer: JST Sales America Inc.; Manufacturer Part Number: S4B-PH-K-S(LF)(SN); Supplier 1: Digi-Key; Supplier Part Number 1: 455-1721-ND; Reel Stock: N/A; Last modified by: J.Jaramillo; Last modified date: 20240310; ComponentLink1Description: Digi-Key; ComponentLink1URL: https://www.digikey.com/en/products/detail/jst-sales-america-inc/S4B-PH-K-S-LF-SN/926628?s=N4IgTCBcDaIMoBYBCBaACgCRQaRXAFADIBiAlPnAHKkgC6AvkA
footprint CON_4X1_TH_2MM_BRK04 (/20210216/M-C.Calderon)
pins: 1, 2, 3, 4

## Con_4X1_TH_5.08mm
designator J?
TERM BLK 4P SIDE ENT 5.08MM PCB; Manufacturer: On Shore Technology Inc.; Manufacturer Part Number: OSTTC042162; Supplier 1: Digi-Key; Supplier Part Number 1: ED2611-ND; Reel Stock: N/A; Last modified by: J.Jaramillo; Last modified date: 20240310; ComponentLink1Description: Digi-Key; ComponentLink1URL: https://www.digikey.com/en/products/detail/on-shore-technology-inc/OSTTC042162/614560; ComponentLink2Description: Datasheet; ComponentLink2URL: chrome-extension://efaidnbmnnnibpcajpcglclefindmkaj/https://www.on-shore.com/wp-content/uploads/OSTTCXX2162.pdf
footprint CON_4x1_TH_5.08mm_TB (/ 20231112 / J.Jaramillo)
pins: 1, 2, 3, 4

## Con_4X1_TH_Circular
designator J?, comment 4x1
CONN RCPT FMALE 4POS GOLD SOLDER; Manufacturer: Hirose Electric Co Ltd; Manufacturer Part Number: HR10-7R-4SA(73); Supplier 1: Digi-Key; Supplier Part Number 1: HR1579-ND; Reel Stock: N/A; Last modified by: J.Jaramillo; Last modified date: 20240310; ComponentLink1Description: Digi-Key; ComponentLink1URL: https://www.digikey.com/en/products/detail/hirose-electric-co-ltd/HR10-7R-4SA-73/1095437?s=N4IgTCBcDaIBICUCMAGAtAdgWgLAZQEEAKDAZgEoQBdAXyA
footprint CON_4X1_11MM_TH_CIRCULAR (/20220602/F-A.Ospina)
pins: 1, 2, 3, 4

## Con_4x1_TH_RA_1.5mm
designator J?, comment Function?
CONN HEADER R/A 4POS 1.5MM; Manufacturer Part Number: S4B-ZR(LF)(SN); Manufacturer: JST Sales America Inc.; ComponentLink1Description: Digi-Key; ComponentLink1URL: https://www.digikey.com/products/en?keywords=455-1671-ND; Last modified date: 20240310; Last modified by: J.Jaramillo; Reel Stock: N/A; Supplier 1: Digi-Key; Supplier Part Number 1: 455-1671-ND
footprint CON_4x1_TH_RA_1.5MM (/20200527/H-D.Garcia)
pins: 1, 2, 3, 4

## Con_4x1_TH_RA_2mm_Grove
designator J?, comment Grove Connector RA
GROVE 2MM 4PIN R/A CONN 10PACK; Manufacturer Part Number: 110990037; Manufacturer: Seeed Technology Co., Ltd; Supplier 1: Digi-Key; Supplier Part Number 1: 1597-1083-ND; ComponentLink1Description: Digi-Key; ComponentLink1URL: https://www.digikey.com/product-detail/en/seeed-technology-co-ltd/110990030/1597-1082-ND/5482560; Last modified date: 20240310; Last modified by: J.Jaramillo; Reel Stock: N/A
footprint CON_4X1_TH_RA_2mm_GROVE (/ 20190408 / L-A Boulanger)
pins: 1, 2, 3, 4

## Con_4x2_SMD_2mm
designator J?, comment 4x2_2mm
CONN RCPT 8POS 0.079 TIN SMD; Manufacturer Part Number: DF11CZ-8DS-2V; Manufacturer: Hirose Electric Co Ltd; Supplier 1: Digi-Key; Supplier Part Number 1: H124564CT-ND; ComponentLink1URL: https://www.digikey.com/en/products/detail/hirose-electric-co-ltd/DF11CZ-8DS-2V-22/5155867; Last modified date: 20240310; Last modified by: J.Jaramillo; Reel Stock: N/A; ComponentLink1Description: Digi-Key; ComponentLink1URL: *
footprint Con_4x2_SMD_2MM (/ 20220808 / N-A.Potosi)
pins: 0, 1, 2, 3, 4, 5, 6, 7, 8

## Con_4x2_SMD_2mm_2
designator J?, comment 4x2 2mm
CONN RCPT 8 POS 0.079" GOLD SMD; Manufacturer: TE Connectivity AMP Connectors; Manufacturer Part Number: 2314844-8; Supplier 1: Digi-Key; Supplier Part Number 1: 17-2314844-8-ND; Reel Stock: N/A; Last modified by: E.Naranjo; Last modified date: 20240310; ComponentLink1Description: Digi-Key; ComponentLink1URL: https://www.digikey.com/en/products/detail/te-connectivity-amp-connectors/2314844-8/10494758?s=N4IgTCBcDa4MwEYAsAOJSC0KQF0C%2BQA
footprint Con_4x2_SMD_2MM_2 (/ 20230104 / E.Naranjo)
pins: 1, 2, 3, 4, 5, 6, 7, 8

## Con_4x2_SMD_50mil
designator J?, comment 4x2_50mil
CONN HEADER SMD 8POS 1.27MM; Manufacturer Part Number: BH1.27X4.9-8T; Manufacturer: Poshton; Supplier 1: Poshton; Supplier Part Number 1: BH1.27X4.9-8T; ComponentLink1URL: https://www.digikey.tw/product-detail/en/on-shore-technology-inc/302-S101/ED1543-ND/2178422?keywords=+ED1543-ND&cur=USD&lang=en; Last modified date: 20240310; Last modified by: J.Jaramillo; Reel Stock: N/A
footprint Con_4x2_SMD_50mil (/ 20190313 / H-D.Garcia)
pins: 1, 2, 3, 4, 5, 6, 7, 8

## Con_5x1_SMD_0.5mm_FFC_FPC
designator J?, comment FFC FPC Connector  (no BOM)
CONN FFC FPC 5POS 0.50MM R/A; Manufacturer Part Number: 0512810594; Manufacturer: Molex; Last modified by: J.Jaramillo; Last modified date: 20240310; Reel Stock: N/A; Supplier 1: Digi-Key; Supplier Part Number 1: WM12846CT-ND; ComponentLink1Description: Digi-Key; ComponentLink1URL: https://www.digikey.com/en/products/detail/molex/0512810594/3262638?s=N4IgTCBcDaIAwFYCMYAcTEE4AsIC6AvkA
footprint CON_5x1_SMD_0.5MM_MOLEX_FFC_FPC (/ 20190222 / C-A.Serna.A)
pins: 1, 2, 3, 4, 5

## Con_5x1_SMD_0.5mm_FFC_FPC_2
designator J?, comment 5x1
CONN FFC FPC TOP 5POS 0.50MM R/A; Manufacturer: Molex; Manufacturer Part Number: 0545500571; Supplier 1: Digikey; Supplier Part Number 1: WM8824CT-ND; Reel Stock: N/A; Last modified by: J.Jaramillo; Last modified date: 20240310; ComponentLink1Description: Digikey; ComponentLink1URL: https://www.digikey.com/en/products/detail/molex/0545500571/3196984
footprint CON_5x1_SMD_0.5mm_FCC (/20210126/J-E.Pachon)
pins: 0 legs, 1, 2, 3, 4, 5

## Con_5x1_SMD_1.5MM
designator J?, comment 5x1
CONN RCPT 5POS 0.059 TIN SMD; Manufacturer: Molex; Manufacturer Part Number: 5025840570; Last modified by: J.Jaramillo; Last modified date: 20240310; Supplier 1: Digikey; Supplier Part Number 1: WM14463CT-ND; Reel Stock: N/A; ComponentLink1Description: Digikey; ComponentLink1URL: https://www.digikey.com/en/products/detail/molex/5025840570/2819021
footprint CON_5x1_SMD_1.5MM (/20201006/J-E.Pachon)
pins: 0 Legs, 1, 2, 3, 4, 5

## Con_5x1_SMD_RA_1mm
designator J?, comment 5x1 SMD 1mm
CONN HEADER SMD R/A 5POS 1MM; Manufacturer Part Number: 5015680507; Manufacturer: Molex; Supplier 1: Digi-Key; Supplier Part Number 1: WM7896CT-ND; ComponentLink1Description: Digi-Key; ComponentLink1URL: https://www.digikey.com/product-detail/en/molex/5015680507/WM7896CT-ND/1531546; Last modified date: 20240310; Last modified by: J.Jaramillo; Reel Stock: N/A
footprint CON_5x1_SMD_1mm (/20200416/V-A.Patino)
pins: 0, 1, 2, 3, 4, 5

## Con_5x1_TH_2.5mm_RMC_KIR07
designator J?, comment 5x1
CONN HEADER VERT 5POS 2.5MM; Manufacturer: TE Connectivity AMP Connectors; Manufacturer Part Number: 171825-5; Supplier 1: Digi-Key; Supplier Part Number 1: A105178-ND; Reel Stock: N/A; Last modified by: J.Jaramillo; Last modified date: 20240310; ComponentLink1Description: Digi-Key; ComponentLink1URL: https://www.digikey.com/en/products/detail/te-connectivity-amp-connectors/171825-5/2187784
footprint CON_5X1_TH_2.5MM_RMC_KIR07 (20221102 / E.Naranjo)
pins: 1, 2, 3, 4, 5

## Con_5x1_TH_2.5mm_XH
designator J?, comment 5x1
CONN HEADER VERT 5POS 2.5MM; Manufacturer Part Number: B5B-XH-A(LF)(SN); Manufacturer: JST Sales America Inc.; Supplier 1: Digi-Key; Supplier Part Number 1: 455-2270-ND; Last modified date: 20240310; Last modified by: J.Jaramillo; Reel Stock: N/A; ComponentLink2Description: Digi-Key; ComponentLink2URL: https://www.digikey.com/en/products/detail/jst-sales-america-inc/B5B-XH-A-LF-SN/1530483
footprint CON_5X1_TH_2.5MM_XH (/20201014/C-A.Serna.A)
pins: 1, 2, 3, 4, 5

## Con_5x1_TH_2.54MM
designator J?, comment 5x1
CONN HEADER VERT 5POS 2.54MM; Manufacturer Part Number: 0022272051; Manufacturer: Molex; Last modified by: J.Jaramillo; Last modified date: 20240310; Reel Stock: N/A; Supplier 1: Digi-Key; Supplier Part Number 1: WM4114-ND; ComponentLink1Description: Digi-Key; ComponentLink1URL: https://www.digikey.com/en/products/detail/molex/0022272051/1130580
footprint CON_5X1_TH_2.54MM (/20200110/V-A.Patino)
pins: 1, 2, 3, 4, 5

## Con_5x1_TH_2.54MM_VERT
designator J?, comment 5x1
CONN HEADER VERT 5POS 2.54MM; Manufacturer Part Number: 0705430039; Manufacturer: Molex; Last modified by: J.Jaramillo; Last modified date: 20240310; Reel Stock: N/A; Supplier 1: Digi-Key; Supplier Part Number 1: WM4827-ND; ComponentLink1Description: Digi-Key; ComponentLink1URL: https://www.digikey.com/en/products/detail/molex/0705430039/313742?s=N4IgjCBcoKxaBjKAzAhgGwM4FMA0IB7KAbXBAF18AHAFyhAGUaAnASwDsBzEAX3wCYAHPBBJIaLHkIkQAZhjyADAHYK1OpEYsO3PiABsskWIk58RSKTAxl-AJwRKIWvSZsuvfPv3GUGM9KWZE4umm46ngZ2vuL%2BUhakACxgYIJ2qiEaWu66%2BILC0KJ%2BkuYy-PaKio7qrtoeenaKMabxMrJ23nCZtTmRDs1xpUGy-GD6-EbdYXW5IPww-AMlgaSj-ImyiWrOWeH1%2BImKcIUmgytyY3Z2kzXTvXowYIsnxQEJcspg8jc7PREPqSWbzahk621C2X%2B%2BBg%2Bi2L1iy3esieykSXVukP2IBgaSBrSChxglUWU0xs306TxQys4N2Mz6iiM8Ja1JAyWU4wyGL2szAikEcMQr3xpFkgn0MES0VJPMiT0MVPO1V%2Bdyh4ApTKFCOBwzAV3stL%2BWLAykaive6X4Phl9L0Jv6zLO72S5VkXJVZLlpueWpZ5yuMOVENldtNx19TpkLom7uDtvw9p8jsRMgD%2BiDdPuCbsuOTOtITXIen4VQgeZFbMU3m8htVWJLT3NMhSYy2NqzcyqBQjKaC6yOGaNsxLoybBMUo2UsczapHPqK2or63Kbe58c7EzHovyMAWtc9xYngoXfveg7rw4n4ZPkaC1n0Vf3IfwAFoyz383NJnoX8fTr3SElT4uh-a9-0-a0f1UctWS%2BQQvhgXBNyLHgeCAA
footprint CON_5X1_TH_2.54MM_VERT (/20230123/J-E.Pachon)
pins: 1, 2, 3, 4, 5

## Con_5x1_TH_2mm
designator J?, comment 5x1
CONN HEADER VERT 5POS 2MM; Manufacturer: JST Sales America Inc.; Manufacturer Part Number: B5B-PH-KL(LF)(SN); Last modified by: J.Jaramillo; Last Modified date: 20240310; Supplier 1: Digikey; Supplier Part Number 1: B5B-PH-KL(LF)(SN)-ND; Reel Stock: N/A; ComponentLink1Description: Digikey; ComponentLink1URL: https://www.digikey.com/en/products/detail/jst-sales-america-inc/b5b-ph-kl-lf-sn/9919888
footprint Con_5x1_TH_2MM (/20201005/J-E.Pachon)
pins: 1, 2, 3, 4, 5

## Con_5x1_TH_100mil
designator J?, comment 5x1
CONN HEADER VERT 5POS 2.54MM; Manufacturer Part Number: KF2510 5A; Manufacturer: WeiZan; Last modified by: J.Jaramillo; Last modified date: 20240310; Reel Stock: N/A; Supplier 1: Poshton; Supplier Part Number 1: KF2510 5A
footprint CON_5X1_TH_100MIL_IB (/20200110/V-A.Patino)
pins: 1, 2, 3, 4, 5

## Con_5x2_SMD_50mil_nRF
designator J?, comment Con_5x2_SMD
CONN HEADER SMD 10POS 1.27MM; Manufacturer: CNC Tech; Manufacturer Part Number: 3220-10-0300-00; ComponentLink1URL: https://www.digikey.com/product-detail/en/cnc-tech/3220-10-0300-00/1175-1629-ND/3883266; Last modified by: J.Jaramillo; Last modified date: 20240310; ComponentLink1Description: Digi-key; Reel Stock: N/A; Supplier 1: Digi-Key; Supplier Part Number 1: 1175-1629-ND
footprint CON_5x2_SMD_50mil_nRF (/ 200102/ C-A.Serna.A)
pins: 1, 2, 3, 4, 5, 6, 8, 9, 10

## Con_5x2_SMD_79mil
designator H?, comment 5x2_SMD
CONN HEADER SMD 10POS 2MM; Manufacturer: Sullins Connector Solutions; Manufacturer Part Number: SBH21-NBPN-D05-SM-BK; ComponentLink1URL: https://www.digikey.com/products/en?keywords=SBH21-NBPN-D05-SM-BK; Last modified by: J.Jaramillo; Last modified date: 20240310; ComponentLink1Description: Digi-key; Reel Stock: N/A; Supplier 1: Digi-Key; Supplier Part Number 1: S9036-ND
footprint CON_5x2_SMD_79mil (/ 20191104 / C-D Viveros)
pins: 1, 2, 3, 4, 5, 6, 7, 8, 9, 10

## Con_5x2_TH_2mm
designator J?
CONN HEADER VERT 10POS 2MM; Manufacturer: Sullins Connector Solutions; Manufacturer Part Number: SBH21-NBPN-D05-ST-BK; Supplier 1: Digi-Key; Supplier Part Number 1: S9018-ND; Reel Stock: N/A; Last modified by: J.Jaramillo; Last modified date: 20240310; ComponentLink1Description: Digi-Key; ComponentLink1URL: https://www.digikey.com/en/products/detail/sullins-connector-solutions/SBH21-NBPN-D05-ST-BK/1989751; ComponentLink2Description: Datasheet; ComponentLink2URL: https://s3.amazonaws.com/catalogspreads-pdf/PAGE110%202mm%20SBH21%20SERIES%20MALE%20BOX%20HDR%20ST%20RA%20SMT.pdf
footprint CON_5x2_TH_2MM (20230525/ J.Jaramillo)
pins: 1, 2, 3, 4, 5, 6, 7, 8, 9, 10

## Con_5x2_TH_100mil
designator J?, comment 5x2
CONN HEADER VERT 10POS 2.54MM; Manufacturer: On Shore Technology Inc.; Manufacturer Part Number: 302-S101; Supplier 1: Digi-Key; Supplier Part Number 1: ED1543-ND; Last modified by: J.Jaramillo; Last modified date: 20240310; Reel Stock: N/A; ComponentLink1Description: Digikey; ComponentLink1URL: https://www.digikey.com/en/products/detail/on-shore-technology-inc/302-S101/2178422?s=N4IgTCBcDaIKIBECMBWALAZgLQDkEgF0BfIA
footprint CON_5x2_TH_100mil_KIR (/ 20190221 / C-A.Serna.A)
pins: 1, 2, 3, 4, 5, 6, 7, 8, 9, 10

## Con_6x1_SMD_0.5mm_FFC_FPC
designator J?, comment 6x1
CONN FFC BOTTOM 6POS 0.50MM R/A; Manufacturer: Molex; Manufacturer Part Number: 0545480671; Supplier 1: Digikey; Supplier Part Number 1: WM11101CT-ND; Reel Stock: N/A; Last modified by: J.Jaramillo; Last modified date: 20240310; ComponentLink1Description: Digikey; ComponentLink1URL: https://www.digikey.com/en/products/detail/molex/0545480671/4553777
footprint CON_6x1_SMD_0.5mm_FCC (/20210126/J-E.Pachon)
pins: 0 legs, 1, 2, 3, 4, 5, 6

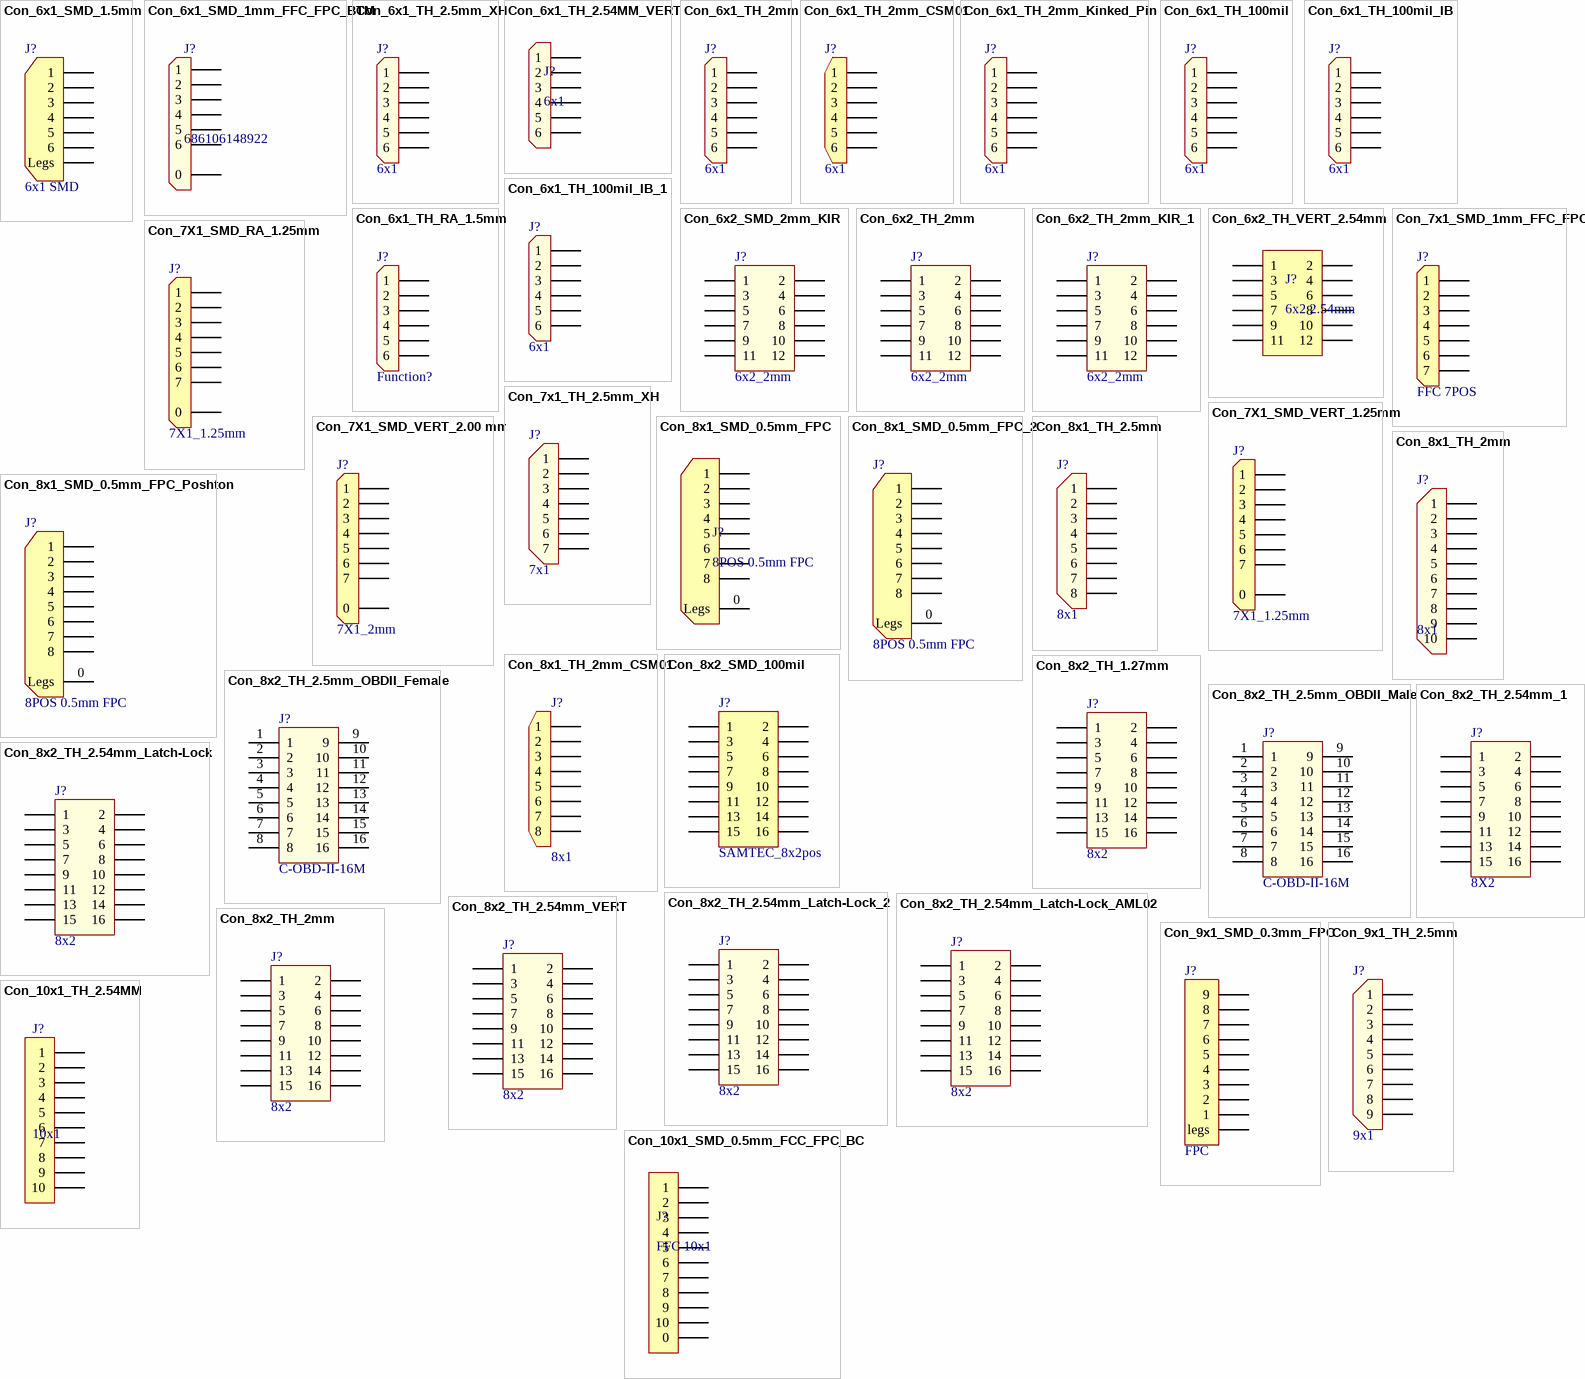
[diagram p2: symbols Con_6x1_SMD_1.5mm to Con_10x1_TH_2.54MM]

## Con_6x1_SMD_1.5mm
designator J?, comment 6x1 SMD
CONN RCPT 6POS 0.059 TIN SMD; Manufacturer: Molex; Manufacturer Part Number: 5025840670; Last modified by: J.Jaramillo; Last modified date: 20240310; Supplier 1: Digi-Key; Supplier Part Number 1: WM14464CT-ND; Reel Stock: N/A; ComponentLink1Description: Digikey; ComponentLink1URL: https://www.digikey.com/en/products/detail/molex/5025840670/6133195
footprint CON_6x1_SMD_1.5mm (/ 20201109/ N-A.Potosi)
pins: 0 Legs, 1, 2, 3, 4, 5, 6

## Con_6x1_SMD_1mm_FFC_FPC_BTM
designator J?, comment 686106148922
CONN 1MM HORZ BOTTOM SMD 6POS; Manufacturer: Würth Elektronik; Manufacturer Part Number: 686106148922; Supplier 1: Digi-Key; Supplier Part Number 1: 732-6017-1-ND; Reel Stock: N/A; Last modified by: J.Jaramillo; Last modified date: 20240310; ComponentLink1Description: Digi-Key; ComponentLink1URL: https://www.digikey.com/en/products/detail/würth-elektronik/686106148922/5047772?s=N4IgTCBcDaIGwA44EYAMKAsCCcYIF0BfIA
footprint CON_6x1_SMD_1mm_FFC (/ 20230217/ N-A.Potosi)
pins: 0, 1, 2, 3, 4, 5, 6

## Con_6x1_TH_2.5mm_XH
designator J?, comment 6x1
CONN HEADER VERT 6POS 2.5MM; Manufacturer Part Number: B6B-XH-A(LF)(SN); Manufacturer: JST Sales America Inc.; Supplier 1: Digi-Key; Supplier Part Number 1: 455-2271-ND; Last modified date: 20240310; Last modified by: J.Jaramillo; Reel Stock: N/A; ComponentLink2Description: Digi-Key; ComponentLink2URL: https://www.digikey.com/en/products/detail/jst-sales-america-inc/B6B-XH-A-LF-SN/1000381
footprint CON_6X1_TH_2.5MM_XH (/20201014/C-A.Serna.A)
pins: 1, 2, 3, 4, 5, 6

## Con_6x1_TH_2.54MM_VERT
designator J?, comment 6x1
CONN HEADER VERT 6POS 2.54MM; Manufacturer: Molex; Manufacturer Part Number: 0705430040; Supplier 1: Digi-Key; Supplier Part Number 1: WM4828-ND; Reel Stock: N/A; Last modified by: J.Jaramillo; Last modified date: 20240310; ComponentLink1Description: Digi-Key; ComponentLink1URL: https://www.digikey.com/en/products/detail/molex/0705430040/313743?s=N4IgjCBcoKxaBjKAzAhgGwM4FMA0IB7KAbXBAF18AHAFyhAGUaAnASwDsBzEAX3wCYAHPBBJIaLHkIkQAZhjyADAHYK1OpEYsO3PiABsskWIk58RSKTAxl-AJwRKIWvSZsuvfPv3GUGM9KWZE4umm46ngZ2vuL%2BUhakACxgYIJ2qiEaWu66%2BILC0KJ%2BkuYy-InpsopqzlnhHnp21YUmcaVBsnbecJmu2g34DjGm8TKy-GD6-Ea9Yf25IPww-MNtgaQT5bKJNaHZEXqJinAtxQEJcpN2djPqfTmRMGArp7El63LKYPK3tfcH%2BCeBUQZ1GHUM3V2dXmj30O1eI3apFkz2UiR6dzmDz0MDSq3eFyOMEUihWs32AyiqgRawujkxFIWTSMNIJMmSyimGQZ9QWYEUgnhILe5zGgn0MAqUP%2BlOehnxoqC9L%2BWIB4H0NwVYORYGu9mlqtlyiaWqRIHS-B85N5kTAxogrMVSWe025KsZtuNL2FiI%2B1xg%2BmVextejtdhOPtp7JdsjdwZhoeNPkd2vN4cDBo9obseJTZuq5D0-EUKVNHyO3m8mZDAhL3qKItTKUmO2tCdrqTLF3KxyD0OxtYmXfZpLtcf7auL-HrrTZQXK09bPPbi1JLMjc%2BR%2BRgy2rK6nQobvrpe4Hq6Ww6VAcUVuXZ4AtA6N07FjM9PfD7OX5Kvj13xGjyjIIrXfalnybWRBG%2BGBcGmCgeAQoA
footprint CON_6X1_TH_2.54MM_VERT (/20230331/J-E.Pachon)
pins: 1, 2, 3, 4, 5, 6

## Con_6x1_TH_2mm
designator J?, comment 6x1
CONN HEADER VERT 6POS 2MM; Manufacturer: JST Sales America Inc.; Manufacturer Part Number: B6B-PH-K(LF)(SN); Last modified by: J.Jaramillo; Last modified date: 20240310; Supplier 1: Digi-key; Supplier Part Number 1: 455-2923-ND; Reel Stock: N/A; ComponentLink1Description: Digikey; ComponentLink1URL: https://www.digikey.com/en/products/detail/jst-sales-america-inc/B6B-PH-K-LF-SN/2741628
footprint CON_6x1_TH_2MM (/20201002/J-E.Pachon)
pins: 1, 2, 3, 4, 5, 6

## Con_6x1_TH_2mm_CSM01
designator J?, comment 6x1
CONN HEADER R/A 2POS 2MM; Manufacturer Part Number: 440055-6; Manufacturer: TE Connectivity AMP Connectors; Supplier Part Number 1: A100047-ND; Supplier 1: Digi-Key; ComponentLink1URL: https://www.digikey.com/en/products/detail/te-connectivity-amp-connectors/440055-6/2077950; Last modified date: 20240310; Last modified by: J.Jaramillo; Reel Stock: N/A; ComponentLink1Description: Digi-key; ComponentLink1URL: https://www.digikey.com/products/en?keywords=A101401CT-ND
footprint CON_6X1_TH_2MM_CSM01 (/20210121/V-A.Patino)
pins: 1, 2, 3, 4, 5, 6

## Con_6x1_TH_2mm_Kinked_Pin
designator J?, comment 6x1
CONN HEADER PA 6POS TOP W/BOSS; Manufacturer Part Number: B06B-PASK-1(LF)(SN); Manufacturer: JST Sales America Inc.; ComponentLink1Description: Digi-Key; ComponentLink1URL: https://www.digikey.com/products/en?keywords=455-1836-ND; Last modified date: 20240310; Last modified by: J.Jaramillo; Reel Stock: N/A; Supplier 1: Digi-Key; Supplier Part Number 1: 455-1836-ND
footprint CON_6x1_TH_2MM_JST (/ 20190222 / C-A.Serna.A)
pins: 1, 2, 3, 4, 5, 6

## Con_6x1_TH_100mil
designator J?, comment 6x1
CONN HEADER VERT 6POS 2.54MM; Manufacturer Part Number: 70543-0005; Manufacturer: Molex; ComponentLink1Description: Digi-Key; ComponentLink1URL: https://www.digikey.com/products/en?keywords=455-1836-ND; Last modified date: 20240310; Last modified by: J.Jaramillo; Reel Stock: N/A; Supplier 1: Digi-Key; Supplier Part Number 1: WM4804-ND
footprint CON_6x1_TH_2MM_JST (/ 20190222 / C-A.Serna.A)
pins: 1, 2, 3, 4, 5, 6

## Con_6x1_TH_100mil_IB
designator J?, comment 6x1
CONN HEADER VERT 6POS 2.54MM; Manufacturer Part Number: KF2510 6A; Manufacturer: WeiZan; Last modified date: 20240310; Last modified by: J.Jaramillo; Reel Stock: N/A; Supplier 1: Poshton; Supplier Part Number 1: KF2510 6A
footprint CON_6X1_TH_100MIL_IB (/20200110/V-A.Patino)
pins: 1, 2, 3, 4, 5, 6

## Con_6x1_TH_100mil_IB_1
designator J?, comment 6x1
CONN HEADER VERT 6POS 2.54MM; Manufacturer: Molex; Manufacturer Part Number: 0022232061; Supplier 1: Digi-Key; Supplier Part Number 1: WM4204-ND; Reel Stock: N/A; Last modified by: J.Jaramillo; Last modified date: 20240310; ComponentLink1Description: Digi-Key; ComponentLink1URL: https://www.digikey.tw/en/products/detail/molex/0022232061/26675?s=N4IgTCBcDaIOoFkAsYAMSC0A5AIiAugL5A
footprint CON_6X1_TH_100MIL_IB (/20200110/V-A.Patino)
pins: 1, 2, 3, 4, 5, 6

## Con_6x1_TH_RA_1.5mm
designator J?, comment Function?
CONN HEADER R/A 6POS 1.5MM; Manufacturer Part Number: S6B-ZR(LF)(SN); Manufacturer: JST Sales America Inc.; ComponentLink1Description: Digi-Key; ComponentLink1URL: https://www.digikey.com/product-detail/en/jst-sales-america-inc/S6B-ZR-LF-SN/455-1673-ND/926580; Last modified date: 20240310; Last modified by: J.Jaramillo; Reel Stock: N/A; Supplier 1: Digi-Key; Supplier Part Number 1: 455-1673-ND
footprint CON_6x1_TH_RA_1.5MM (/20200527/H-D.Garcia)
pins: 1, 2, 3, 4, 5, 6

## Con_6x2_SMD_2mm_KIR
designator J?, comment 6x2_2mm
CONN HEADER SMD 12POS 2MM; Manufacturer Part Number: 957212-2000-AR-TP; Manufacturer: 3M; ComponentLink1URL: https://www.digikey.com/product-detail/en/3m/957212-2000-AR-TP/3M6489-ND/1855221; Last modified date: 20240310; Last modified by: J.Jaramillo; Reel Stock: N/A; Supplier 1: Digi-Key; Supplier Part Number 1: 3M6489-ND; ComponentLink1Description: Digi-key; ComponentLink1URL: https://www.digikey.tw/products/en?keywords=3M6475-ND
footprint CON_6x2_SMD_79mil (/ 20191107 / C-D Viveros)
pins: 1, 2, 3, 4, 5, 6, 7, 8, 9, 10, 11, 12